# Altium schematic symbol library WtB_3_connector.SchLib: 1 symbol
Pins are listed as number, name and electrical type; pins without a type are passive.

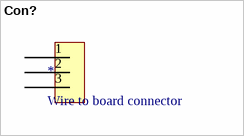
[diagram p0: symbol Con?]

## Con?
designator *, comment Wire to board connector
footprint WtB_Connector (wire to board connector)
pins: 1, 2, 3